# Altium schematic symbol library Si3404.SchLib: 1 symbol
Pins are listed as number, name and electrical type; pins without a type are passive.

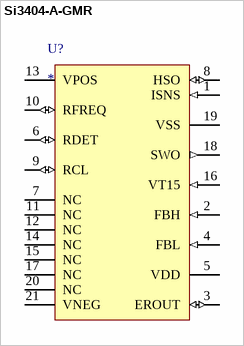
[diagram p0: symbol Si3404-A-GMR]

## Si3404-A-GMR
designator U?
Fully-Integrated IEEE 802.3 Type 1-Compliant POE PD Interface and High-Efficiency Switching Regulator with Compact Footprint
footprint Si3404
pins: 1 ISNS (in) "Chip current sense resistor input", 2 FBH (in) "igh side (VPOS referred) dc-dc feedback (Buck converter)", 3 EROUT (io) "Error amplifier current output, compensation impedance", 4 FBL (in) "w side (VSS referenced) dc-dc feedback (Flyback converter)", 5 VDD (power) "5 V regulator output", 6 RDET (io) "Detection resistor", 7 NC "Connect to VNEG for better thermal performance", 8 HSO (io) "Hotswap switch output", 9 RCL (io) "Classification resistor", 10 RFREQ (io) "Oscillator frequency tuning resistor, tie to VPOS to select", 11 NC "Connect to VNEG for better thermal performance", 12 NC "Connect to VNEG for better thermal performance", 13 VPOS (power) "Rectified high-voltage supply positive rail", 14 NC "Connect to VNEG for better thermal performance", 15 NC "Connect to VNEG for better thermal performance", 16 VT15 (in) "dc-dc transformer auxiliary winding input", 17 NC "Connect to VNEG for better thermal performance", 18 SWO (out) "Internal dc-dc switch output (NMOS drain)", 19 VSS (power), 20 NC "Connect to VNEG for better thermal performance", 21 VNEG (power) "Rectified high voltage supply ground"